# Altium schematic symbol library SCA1020.SchLib: 1 symbol
Pins are listed as number, name and electrical type; pins without a type are passive.

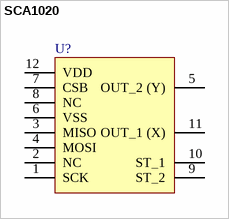
[diagram p0: symbol SCA1020]

## SCA1020
designator U?, comment SCA1000  (value not drawn)
pins: 1 SCK, 2 NC, 3 MISO, 4 MOSI, 5 OUT_2 (Y), 6 VSS, 7 CSB, 8 NC, 9 ST_2, 10 ST_1, 11 OUT_1 (X), 12 VDD
1 alternate drawing of the same symbol